# Altium schematic symbol library WS-TATL.SchLib: 6 symbols
Pins are listed as number, name and electrical type; pins without a type are passive.

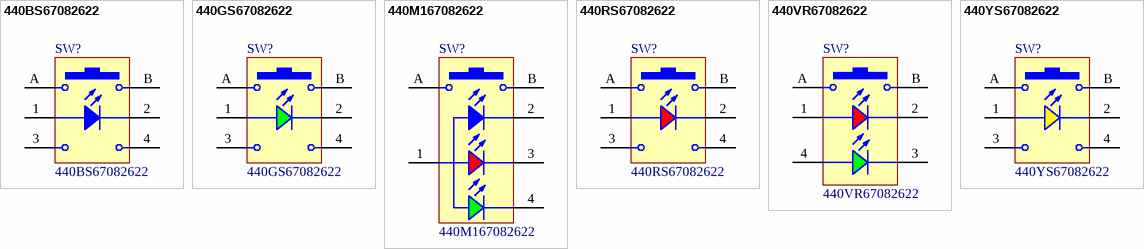
[diagram p0: symbols 440BS67082622 to 440YS67082622]

## 440BS67082622
designator SW?
WS-TATL Illuminated THT Tact Switch, Blue, 12V, 50mA, 220g; Manufacturer: Wurth Elektronik; Rated Voltage: 12VDC; Manufacturer Part Number: 440BS67082622; Category: Illuminated Switch; Match Code: WS-TATL; ComponentLink1Description: Website Link; ComponentLink1URL: https://www.we-online.com/redexpert/article/440BS67082622?ad; ComponentLink2Description: Datasheet Link; ComponentLink2URL: https://www.we-online.com/redexpert/spec/440BS67082622?ad; Mount: Through Hole; Min Operating Temperature: -40°C; Max Operating Temperature: 85°C; Packaging: ESD Tray; Length: 12mm; Width: 12mm; Height: 8.2mm; Contact Material: Stainless Steel; Contact Plating: Silver; Operation Force: 220g; Emitting Color: Blue; Rated Current: 50mA; Terminal Material: Copper Alloy; Terminal Plating: Silver
footprint 440xx67082622
pins: 1, 2, 3, 4, A, B

## 440GS67082622
designator SW?
WS-TATL Illuminated THT Tact Switch, Green, 12V, 50mA, 220g; Manufacturer: Wurth Elektronik; Rated Voltage: 12VDC; Manufacturer Part Number: 440GS67082622; Category: Illuminated Switch; Match Code: WS-TATL; ComponentLink1Description: Website Link; ComponentLink1URL: https://www.we-online.com/redexpert/article/440GS67082622?ad; ComponentLink2Description: Datasheet Link; ComponentLink2URL: https://www.we-online.com/redexpert/spec/440GS67082622?ad; Mount: Through Hole; Min Operating Temperature: -40°C; Max Operating Temperature: 85°C; Packaging: ESD Tray; Length: 12mm; Width: 12mm; Height: 8.2mm; Contact Material: Stainless Steel; Contact Plating: Silver; Operation Force: 220g; Emitting Color: Green; Rated Current: 50mA; Terminal Material: Copper Alloy; Terminal Plating: Silver
footprint 440xx67082622
pins: 1, 2, 3, 4, A, B

## 440M167082622
designator SW?
WS-TATL Illuminated THT Tact Switch, Red & Green & Blue, 12V, 50mA, 220g; Manufacturer: Wurth Elektronik; Rated Voltage: 12VDC; Manufacturer Part Number: 440M167082622; Category: Illuminated Switch; Match Code: WS-TATL; ComponentLink1Description: Website Link; ComponentLink1URL: https://www.we-online.com/redexpert/article/440M167082622?ad; ComponentLink2Description: Datasheet Link; ComponentLink2URL: https://www.we-online.com/redexpert/spec/440M167082622?ad; Mount: Through Hole; Min Operating Temperature: -40°C; Max Operating Temperature: 85°C; Packaging: ESD Tray; Length: 12mm; Width: 12mm; Height: 8.2mm; Contact Material: Stainless Steel; Contact Plating: Silver; Operation Force: 220g; Emitting Color: Red & Green & Blue; Rated Current: 50mA; Terminal Material: Copper Alloy; Terminal Plating: Silver
footprint 440xx67082622
pins: 1, 2, 3, 4, A, B

## 440RS67082622
designator SW?
WS-TATL Illuminated THT Tact Switch, Red, 12V, 50mA, 220g; Manufacturer: Wurth Elektronik; Rated Voltage: 12VDC; Manufacturer Part Number: 440RS67082622; Category: Illuminated Switch; Match Code: WS-TATL; ComponentLink1Description: Website Link; ComponentLink1URL: https://www.we-online.com/redexpert/article/440RS67082622?ad; ComponentLink2Description: Datasheet Link; ComponentLink2URL: https://www.we-online.com/redexpert/spec/440RS67082622?ad; Mount: Through Hole; Min Operating Temperature: -40°C; Max Operating Temperature: 85°C; Packaging: ESD Tray; Length: 12mm; Width: 12mm; Height: 8.2mm; Contact Material: Stainless Steel; Contact Plating: Silver; Operation Force: 220g; Emitting Color: Red; Rated Current: 50mA; Terminal Material: Copper Alloy; Terminal Plating: Silver
footprint 440xx67082622
pins: 1, 2, 3, 4, A, B

## 440VR67082622
designator SW?
WS-TATL Illuminated THT Tact Switch, Red & Bright Green, 12V, 50mA, 220g; Manufacturer: Wurth Elektronik; Rated Voltage: 12VDC; Manufacturer Part Number: 440VR67082622; Category: Illuminated Switch; Match Code: WS-TATL; ComponentLink1Description: Website Link; ComponentLink1URL: https://www.we-online.com/redexpert/article/440VR67082622?ad; ComponentLink2Description: Datasheet Link; ComponentLink2URL: https://www.we-online.com/redexpert/spec/440VR67082622?ad; Mount: Through Hole; Min Operating Temperature: -40°C; Max Operating Temperature: 85°C; Packaging: ESD Tray; Length: 12mm; Width: 12mm; Height: 8.2mm; Contact Material: Stainless Steel; Contact Plating: Silver; Operation Force: 220g; Emitting Color: Red & Bright Green; Rated Current: 50mA; Terminal Material: Copper Alloy; Terminal Plating: Silver
footprint 440xx67082622
pins: 1, 2, 3, 4, A, B

## 440YS67082622
designator SW?
WS-TATL Illuminated THT Tact Switch, Yellow, 12V, 50mA, 220g; Manufacturer: Wurth Elektronik; Rated Voltage: 12VDC; Manufacturer Part Number: 440YS67082622; Category: Illuminated Switch; Match Code: WS-TATL; ComponentLink1Description: Website Link; ComponentLink1URL: https://www.we-online.com/redexpert/article/440YS67082622?ad; ComponentLink2Description: Datasheet Link; ComponentLink2URL: https://www.we-online.com/redexpert/spec/440YS67082622?ad; Mount: Through Hole; Min Operating Temperature: -40°C; Max Operating Temperature: 85°C; Packaging: ESD Tray; Length: 12mm; Width: 12mm; Height: 8.2mm; Contact Material: Stainless Steel; Contact Plating: Silver; Operation Force: 220g; Emitting Color: Yellow; Rated Current: 50mA; Terminal Material: Copper Alloy; Terminal Plating: Silver
footprint 440xx67082622
pins: 1, 2, 3, 4, A, B